# Altium schematic symbol library Inductance.SchLib: 7 symbols
Pins are listed as number, name and electrical type; pins without a type are passive.

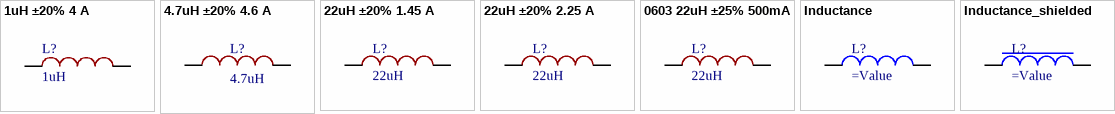
[diagram p0: symbols 1uH ±20% 4 A to Inductance_shielded]

## 1uH ±20% 4 A
designator L?, comment 1uH
Fixed Inductors 1uH -20%, Irms 4A, Isat 6A, 47mOhm AEC-Q200; Manufacturer: Bourns Inc.; Case: 4.7x4.3x1 mm; Value: 1uH; ComponentLink1Description: HeplURL; ComponentLink1URL: http://www.farnell.com/datasheets/1839009.pdf?src-supplier=Element14; Supplier 1: Digi-Key; Supplier Part Number 1: SRP4012TA-1R0MCT-ND
footprint IND4.5x4.3x1
pins: 1, 2

## 4.7uH ±20% 4.6 A
designator L?, comment 4.7uH
Fixed Inductors 4.7uH 20% 5.1A 44.1mOhms AEC-Q200 XAL4030-472MEB; Manufacturer: Coilcraft; Supplier 1: Mouser; Case: 6x6x4.5mm; Supplier Part Number 1: 994-XAL4030-472MEB; Value: 4.7uH; ComponentLink1Description: HeplURL; ComponentLink1URL: https://www.mouser.com/datasheet/2/597/xal4000-270751.pdf
footprint IND6x6x4.5
pins: 1, 2

## 22uH ±20% 1.45 А
designator L?, comment 22uH
Chip Ferrite Bead for High-speed Signal Lines, 0.091Ohm, / 0.2 ... 3.6A, -55 to 125 degC, 7.3 x 7.3 x 4.5 mm SMT, Tape and Reel; Manufacturer: TDK; Case: 7.3 u 7.3 u 4.5 (mm); Value: 22uH; Supplier 1: Digi-Key; Supplier Part Number 1: 495-5678-1-ND
footprint SMT 7.3x7.3x4.5 (mm)
pins: 1, 2

## 22uH ±20% 2.25 A
designator L?, comment 22uH
Chip Ferrite Bead for High-speed Signal Lines, 0.091Ohm, / 0.34 ... 7.6 A, -55 to 125 degC, 10.4 x 10.4x 4.8 mm SMT, Tape and Reel; Manufacturer: TDK; Case: 7.3 u 7.3 u 4.5 (mm); Value: 22uH; ComponentLink1Description: HelpURL; ComponentLink1URL: https://static.chipdip.ru/lib/547/DOC005547906.pdf; Supplier 1: Arrow Electronics; Supplier Part Number 1: B82464G4223M
footprint IND10x10x4
pins: 1, 2

## 0603 22uH ±25% 500mA
designator L?, comment 22uH
Chip Ferrite Bead for High-speed Signal Lines, 22 Ohm, 500 mA, -55 to 125 degC, 1.6 x 0.8 x 0.95 mm SMD, Tape and Reel; Manufacturer: Murata; Supplier 1: Digi-Key; Supplier Part Number 1: 490-1016-1-ND; Case: 0603; Value: 22uH
footprint IND0603
pins: 1, 2

## Inductance
designator L?
pins: 1, 2

## Inductance_shielded
designator L?
pins: 1, 2